# Altium footprint library CON_FS11.PcbLib: 1 footprints
Each footprint in its own frame and in the unit in brackets; x right, y up, seen from the top. Pads: shape width x height; smd on the part's side, far side on the other; paste and mask are expansions set on the pad; w line width, h text height; cw(c..) or ccw(c..) is an arc to the next point about the centre after c.
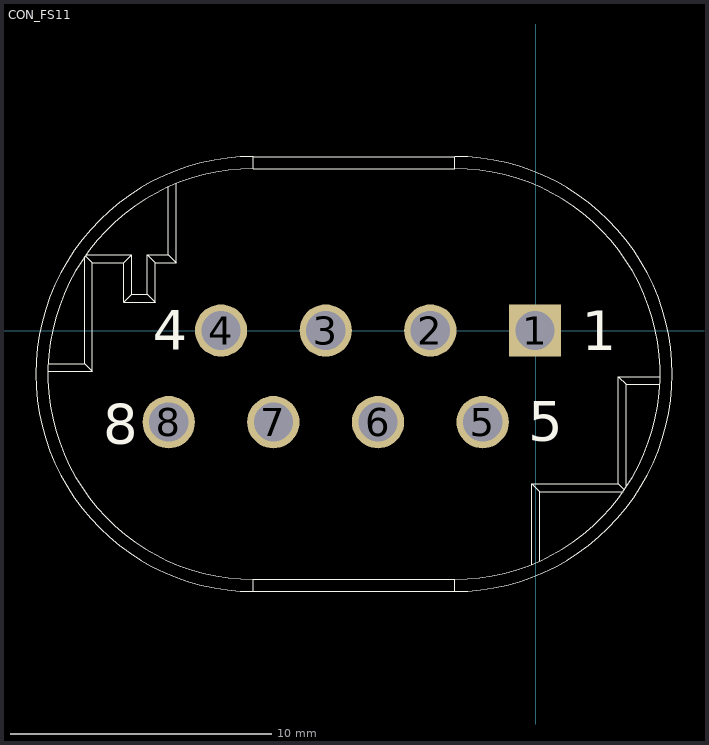
[diagram p0: the footprint, top view; thin cyan lines are the x and y axes]

## CON_FS11 [mm] "Footprint for FS11 ESM"
pads (8):
  rect 2x2 hole 1.5: 1(-0.025,0)
  round 2 hole 1.5: 2(-4.025,0) 3(-8.025,0) 4(-12.025,0) 5(-2.025,-3.5) 6(-6.025,-3.5) 7(-10.025,-3.5) 8(-14.025,-3.5)
Top Overlay:
  lines w0.013: -18.643,-1.561 -16.944,-1.561 ; -18.634,-1.261 -17.244,-1.261 ; -17.244,2.813 -17.244,-1.261 ; -17.213,2.858 -16.944,2.589 ; -17.191,2.889 -15.444,2.889 ; -14.044,5.484 -14.044,2.889 ; -13.744,5.613 -13.744,2.589 ; -0.144,-8.936 -0.144,-5.861 ; 0.156,-8.807 0.156,-6.161 ; 3.338,-6.161 0.156,-6.161 ; 3.387,-6.091 3.156,-5.861 ; 3.456,-5.988 3.456,-2.061 ; 4.746,-2.061 3.456,-2.061 ; 4.756,-1.761 3.156,-1.761 ; -17.244,-1.261 -16.944,-1.561 ; -16.944,-1.561 -16.944,2.589 ; -16.944,2.589 -15.744,2.589 ; -15.744,1.089 -14.544,1.089 ; -15.744,1.089 -15.444,1.389 ; -15.744,1.089 -15.744,2.589 ; -15.744,2.589 -15.444,2.889 ; -15.444,1.389 -14.844,1.389 ; -15.444,1.389 -15.444,2.889 ; -14.844,1.389 -14.544,1.089 ; -14.844,1.389 -14.844,2.889 ; -14.844,2.889 -14.044,2.889 ; -14.844,2.889 -14.544,2.589 ; -14.544,1.089 -14.544,2.589 ; -14.544,2.589 -13.744,2.589 ; -14.044,2.889 -13.744,2.589 ; -10.794,-9.973 cw(c-10.794,-1.661) -10.794,6.651 ; -10.794,-9.973 -10.794,-9.511 ; -10.794,-9.973 -3.094,-9.973 ; -10.794,-9.511 cw(c-10.794,-1.661) -10.794,6.189 ; -10.794,-9.511 -3.094,-9.511 ; -10.794,6.189 -3.094,6.189 ; -10.794,6.189 -10.794,6.651 ; -10.794,6.651 -3.094,6.651 ; -3.094,-9.973 ccw(c-3.094,-1.661) -3.094,6.651 ; -3.094,-9.973 -3.094,-9.511 ; -3.094,-9.511 ccw(c-3.094,-1.661) -3.094,6.189 ; -3.094,6.189 -3.094,6.651 ; -0.144,-5.861 0.156,-6.161 ; -0.144,-5.861 3.156,-5.861 ; 3.156,-5.861 3.156,-1.761 ; 3.156,-1.761 3.456,-2.061
  text "8" at -16.535,-4.318 h1.52
  text "5" at -0.279,-4.216 h1.52
  text "4" at -14.63,-0.737 h1.52
  text "1" at 1.753,-0.762 h1.52